# Altium footprint library Miscellaneous Devices.PcbLib: 178 footprints (part 4 of 12)
Each footprint in its own frame and in the unit in brackets; x right, y up, seen from the top. Pads: shape width x height; smd on the part's side, far side on the other; paste and mask are expansions set on the pad; w line width, h text height; cw(c..) or ccw(c..) is an arc to the next point about the centre after c.
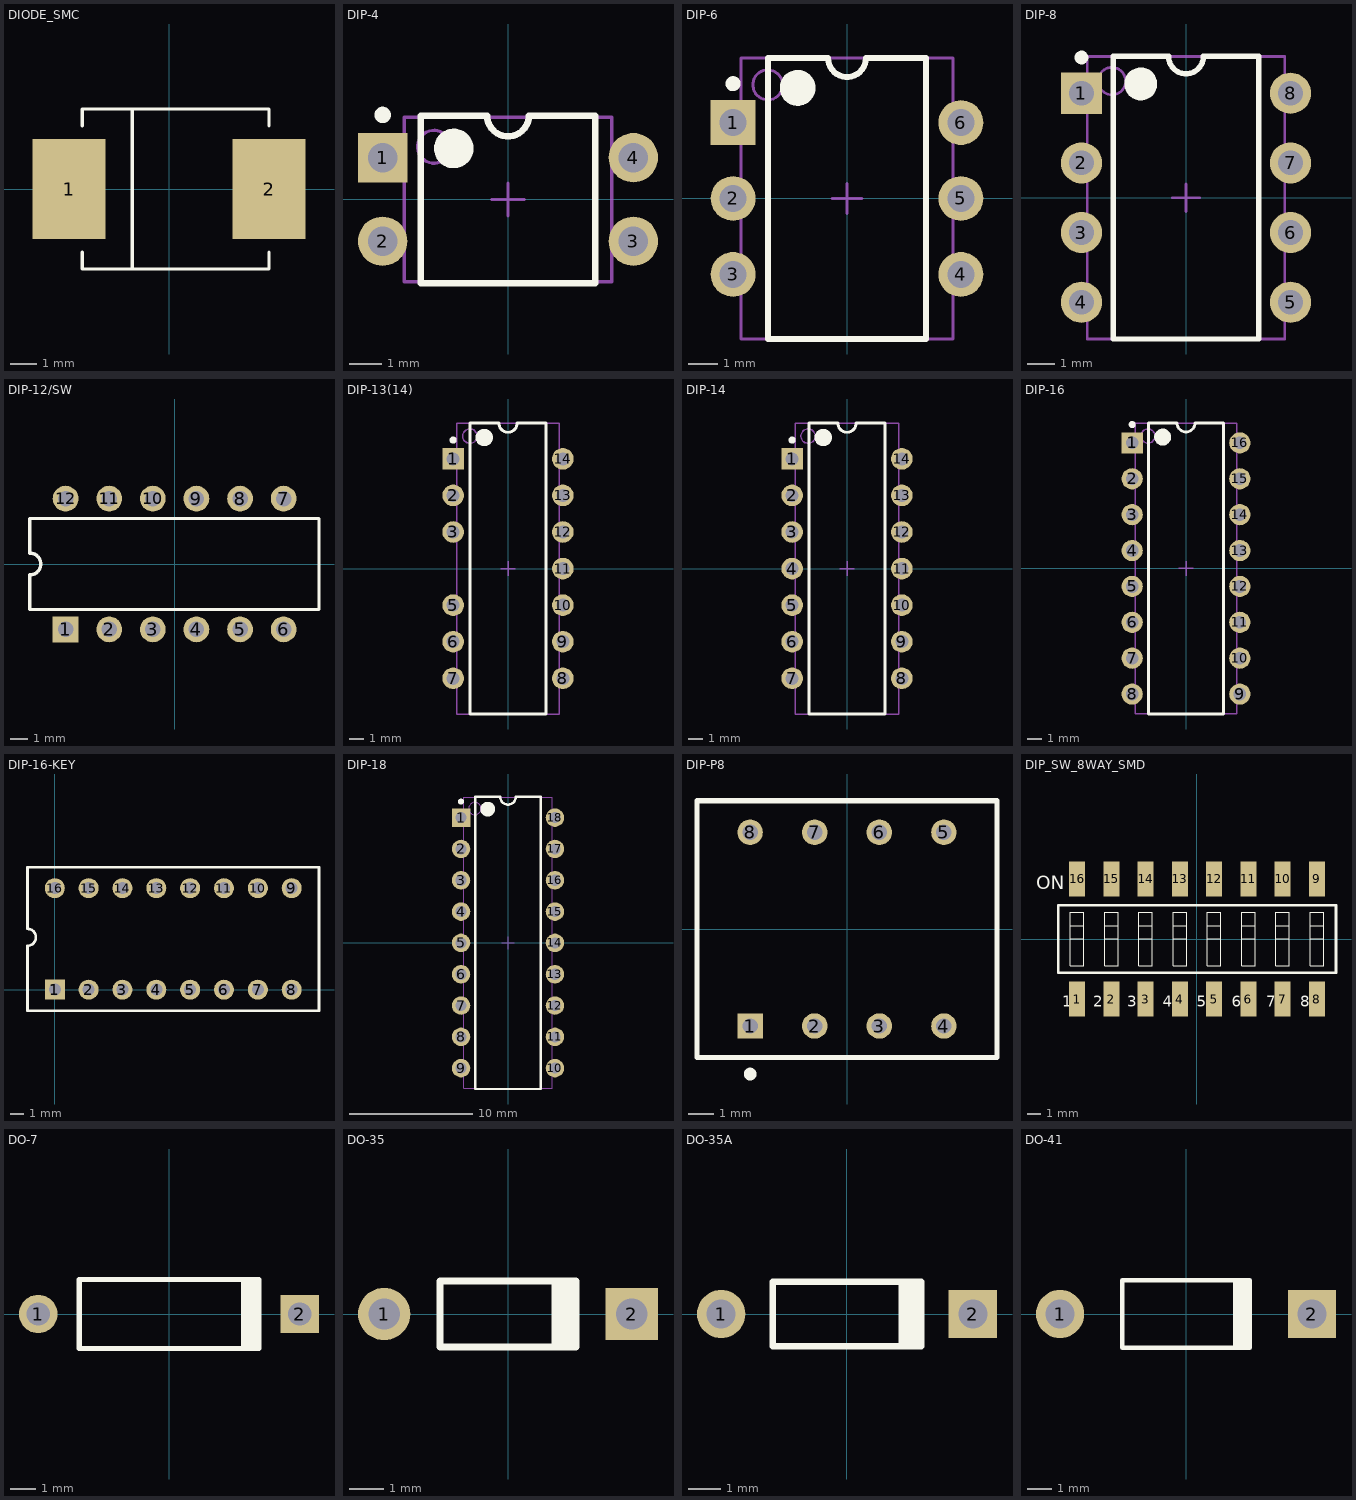
[diagram p3: the footprints below, top view; thin cyan lines are the x and y axes]

## DIODE_SMC [mil] "Diode; 2 Leads"
pads (2):
  rect 110x150 smd: 1(-150,0) 2(150,0)
Top Overlay:
  lines w5: -130,-95 -130,-120 150,-120 150,-95 ; -130,95 -130,120 150,120 150,95 ; -55,-120 -55,120
Mechanical 1:
  lines w1: -130,-120 150,-120 ; -130,120 150,120

## DIP-4 [mm] "DIP; 4 Leads; Row Spacing 7.62 mm; Pitch 2.54 mm"
height 5.6
pads (4):
  rect 1.5x1.5 hole 0.9: 1(-3.81,1.27)
  round 1.5 hole 0.9: 2(-3.81,-1.27) 3(3.81,-1.27) 4(3.81,1.27)
Top Overlay:
  circle w0.6: c-1.65,1.55 r0.3
  circle w0.25: c-3.81,2.57 r0.125
  lines w0.2: -2.65,-2.55 2.65,-2.55 2.65,2.55 0.635,2.55 cw(c0,2.55) -0.635,2.55 -2.65,2.55 -2.65,-2.55
Mechanical 13:
  circle w0.1: c-2.25,1.6 r0.5
  lines w0.1: -3.15,-2.5 3.15,-2.5 3.15,2.5 -3.15,2.5 -3.15,-2.5
Mechanical 15:
  lines w0.1: -0.5,0 0.5,0 ; 0,-0.5 0,0.5
3D body: height 5.6, standoff 0, extent -3.15,-2.5 3.15,2.5

## DIP-6 [mm] "DIP; 6 Leads; Row Spacing 7.62 mm; Pitch 2.54 mm"
height 5.46
pads (6):
  rect 1.5x1.5 hole 0.9: 1(-3.81,2.54)
  round 1.5 hole 0.9: 2(-3.81,0) 3(-3.81,-2.54) 4(3.81,-2.54) 5(3.81,0) 6(3.81,2.54)
Top Overlay:
  circle w0.25: c-3.81,3.84 r0.125
  circle w0.6: c-1.65,3.7 r0.3
  lines w0.2: -2.65,-4.7 -2.65,4.7 -0.635,4.7 ccw(c0,4.7) 0.635,4.7 2.65,4.7 2.65,-4.7 -2.65,-4.7
Mechanical 13:
  circle w0.1: c-2.65,3.8 r0.5
  lines w0.1: -3.55,-4.7 -3.55,4.7 3.55,4.7 3.55,-4.7 -3.55,-4.7
Mechanical 15:
  lines w0.1: -0.5,0 0.5,0 ; 0,-0.5 0,0.5
3D body: height 5.46, standoff 0, extent -3.55,-4.7 3.55,4.7

## DIP-8 [mm] "DIP; 8 Leads; Row Spacing 7.62 mm; Pitch 2.54 mm"
height 5.08
pads (8):
  rect 1.5x1.5 hole 0.9: 1(-3.81,3.81)
  round 1.5 hole 0.9: 2(-3.81,1.27) 3(-3.81,-1.27) 4(-3.81,-3.81) 5(3.81,-3.81) 6(3.81,-1.27) 7(3.81,1.27) 8(3.81,3.81)
Top Overlay:
  circle w0.6: c-1.65,4.15 r0.3
  circle w0.25: c-3.81,5.11 r0.125
  lines w0.2: -2.65,-5.15 2.65,-5.15 2.65,5.15 0.635,5.15 cw(c0,5.15) -0.635,5.15 -2.65,5.15 -2.65,-5.15
Mechanical 13:
  circle w0.1: c-2.7,4.25 r0.5
  lines w0.1: -3.6,-5.15 3.6,-5.15 3.6,5.15 -3.6,5.15 -3.6,-5.15
Mechanical 15:
  lines w0.1: -0.5,0 0.5,0 ; 0,-0.5 0,0.5
3D body: height 5.08, standoff 0, extent -3.6,-5.15 3.6,5.15

## DIP-12/SW [mm] "DIP Switch; 12 Leads"
height 5.8
pads (12):
  rect 1.5x1.5 hole 0.9: 1(-6.35,-3.81)
  round 1.5 hole 0.9: 2(-3.81,-3.81) 3(-1.27,-3.81) 4(1.27,-3.81) 5(3.81,-3.81) 6(6.35,-3.81) 7(6.35,3.81) 8(3.81,3.81) 9(1.27,3.81) 10(-1.27,3.81) 11(-3.81,3.81) 12(-6.35,3.81)
Top Overlay:
  lines w0.2: -8.43,-2.65 8.41,-2.65 8.41,2.65 -8.43,2.65 -8.43,0.635 cw(c-8.43,0) -8.43,-0.635 -8.43,-2.65

## DIP-13(14) [mm] "DIP; 14 Leads (1 Absent); Row Spacing 7.62 mm; Pitch 2.54 mm"
height 5.33
pads (13):
  rect 1.5x1.5 hole 0.9: 1(-3.81,7.62)
  round 1.5 hole 0.9: 2(-3.81,5.08) 3(-3.81,2.54) 5(-3.81,-2.54) 6(-3.81,-5.08) 7(-3.81,-7.62) 8(3.81,-7.62) 9(3.81,-5.08) 10(3.81,-2.54) 11(3.81,0) 12(3.81,2.54) 13(3.81,5.08) 14(3.81,7.62)
Top Overlay:
  circle w0.25: c-3.81,8.92 r0.125
  circle w0.6: c-1.65,9.1 r0.3
  lines w0.2: -2.65,-10.1 -2.65,10.1 -0.635,10.1 ccw(c0,10.1) 0.635,10.1 2.65,10.1 2.65,-10.1 -2.65,-10.1
Mechanical 13:
  circle w0.1: c-2.65,9.2 r0.5
  lines w0.1: -3.55,-10.1 -3.55,10.1 3.55,10.1 3.55,-10.1 -3.55,-10.1
Mechanical 15:
  lines w0.1: -0.5,0 0.5,0 ; 0,-0.5 0,0.5
3D body: height 5.33, standoff 0, extent -3.55,-10.1 3.55,10.1

## DIP-14 [mm] "DIP; 14 Leads; Row Spacing 7.62 mm; Pitch 2.54 mm"
height 5.08
pads (14):
  rect 1.5x1.5 hole 0.9: 1(-3.81,7.62)
  round 1.5 hole 0.9: 2(-3.81,5.08) 3(-3.81,2.54) 4(-3.81,0) 5(-3.81,-2.54) 6(-3.81,-5.08) 7(-3.81,-7.62) 8(3.81,-7.62) 9(3.81,-5.08) 10(3.81,-2.54) 11(3.81,0) 12(3.81,2.54) 13(3.81,5.08) 14(3.81,7.62)
Top Overlay:
  circle w0.6: c-1.65,9.1 r0.3
  circle w0.25: c-3.81,8.92 r0.125
  lines w0.2: -2.65,-10.1 2.65,-10.1 2.65,10.1 0.635,10.1 cw(c0,10.1) -0.635,10.1 -2.65,10.1 -2.65,-10.1
Mechanical 13:
  circle w0.1: c-2.7,9.2 r0.5
  lines w0.1: -3.6,-10.1 3.6,-10.1 3.6,10.1 -3.6,10.1 -3.6,-10.1
Mechanical 15:
  lines w0.1: -0.5,0 0.5,0 ; 0,-0.5 0,0.5
3D body: height 5.08, standoff 0, extent -3.6,-10.1 3.6,10.1

## DIP-16 [mm] "DIP; 16 Leads; Row Spacing 7.62 mm; Pitch 2.54 mm"
height 5.08
pads (16):
  rect 1.5x1.5 hole 0.9: 1(-3.81,8.89)
  round 1.5 hole 0.9: 2(-3.81,6.35) 3(-3.81,3.81) 4(-3.81,1.27) 5(-3.81,-1.27) 6(-3.81,-3.81) 7(-3.81,-6.35) 8(-3.81,-8.89) 9(3.81,-8.89) 10(3.81,-6.35) 11(3.81,-3.81) 12(3.81,-1.27) 13(3.81,1.27) 14(3.81,3.81) 15(3.81,6.35) 16(3.81,8.89)
Top Overlay:
  circle w0.25: c-3.81,10.19 r0.125
  circle w0.6: c-1.65,9.3 r0.3
  lines w0.2: -2.65,-10.3 -2.65,10.3 -0.635,10.3 ccw(c0,10.3) 0.635,10.3 2.65,10.3 2.65,-10.3 -2.65,-10.3
Mechanical 13:
  circle w0.1: c-2.7,9.375 r0.5
  lines w0.1: -3.6,-10.275 -3.6,10.275 3.6,10.275 3.6,-10.275 -3.6,-10.275
Mechanical 15:
  lines w0.1: -0.5,0 0.5,0 ; 0,-0.5 0,0.5
3D body: height 5.08, standoff 0, extent -3.6,-10.275 3.6,10.275

## DIP-16-KEY [mm] "DIP; 16 Leads; Row Spacing 7.62 mm; Pitch 2.54 mm"
pads (16):
  rect 1.5x1.5 hole 0.9: 1(0,0)
  round 1.5 hole 0.9: 2(2.54,0) 3(5.08,0) 4(7.62,0) 5(10.16,0) 6(12.7,0) 7(15.24,0) 8(17.78,0) 9(17.78,7.62) 10(15.24,7.62) 11(12.7,7.62) 12(10.16,7.62) 13(7.62,7.62) 14(5.08,7.62) 15(2.54,7.62) 16(0,7.62)
Top Overlay:
  lines w0.2: -2.05,4.57 cw(c-2.05,3.935) -2.05,3.3 -2.05,-1.59 19.83,-1.59 19.83,9.2 -2.05,9.2 -2.05,4.6

## DIP-18 [mm] "DIP; 18 Leads; Row Spacing 7.62 mm; Pitch 2.54 mm"
height 5.08
pads (18):
  rect 1.5x1.5 hole 0.9: 1(-3.81,10.16)
  round 1.5 hole 0.9: 2(-3.81,7.62) 3(-3.81,5.08) 4(-3.81,2.54) 5(-3.81,0) 6(-3.81,-2.54) 7(-3.81,-5.08) 8(-3.81,-7.62) 9(-3.81,-10.16) 10(3.81,-10.16) 11(3.81,-7.62) 12(3.81,-5.08) 13(3.81,-2.54) 14(3.81,0) 15(3.81,2.54) 16(3.81,5.08) 17(3.81,7.62) 18(3.81,10.16)
Top Overlay:
  circle w0.25: c-3.81,11.46 r0.125
  circle w0.6: c-1.65,10.85 r0.3
  lines w0.2: -2.65,-11.85 -2.65,11.85 -0.635,11.85 ccw(c0,11.85) 0.635,11.85 2.65,11.85 2.65,-11.85 -2.65,-11.85
Mechanical 13:
  circle w0.1: c-2.7,10.9 r0.5
  lines w0.1: -3.6,-11.8 -3.6,11.8 3.6,11.8 3.6,-11.8 -3.6,-11.8
Mechanical 15:
  lines w0.1: -0.5,0 0.5,0 ; 0,-0.5 0,0.5
3D body: height 5.08, standoff 0, extent -3.6,-11.8 3.6,11.8

## DIP-P8 [mm] "Dual-Pole Dual-Throw Relay; 8 Leads"
pads (8):
  rect 1x1 hole 0.6: 1(-3.81,-3.81)
  round 1 hole 0.6: 2(-1.27,-3.81) 3(1.27,-3.81) 4(3.81,-3.81) 5(3.81,3.81) 6(1.27,3.81) 7(-1.27,3.81) 8(-3.81,3.81)
Top Overlay:
  circle w0.25: c-3.81,-5.7 r0.125
  lines w0.2: -5.9,-5.05 5.9,-5.05 5.9,5.05 -5.9,5.05 -5.9,-0.635 -5.9,-5.05

## DIP_SW_8WAY_SMD [mm] "DIP Switch; 16 Leads"
height 5.06
pads (16):
  rect 1.2x2.6 smd: 1(-8.89,-4.45) 2(-6.35,-4.45) 3(-3.81,-4.45) 4(-1.27,-4.45) 5(1.27,-4.45) 6(3.81,-4.45) 7(6.35,-4.45) 8(8.89,-4.45) 9(8.89,4.45) 10(6.35,4.45) 11(3.81,4.45) 12(1.27,4.45) 13(-1.27,4.45) 14(-3.81,4.45) 15(-6.35,4.45) 16(-8.89,4.45)
Top Overlay:
  lines w0.025: -9.39,0 -8.39,0 ; -9.39,1 -8.39,1 ; -6.85,0 -5.85,0 ; -6.85,1 -5.85,1 ; -4.31,0 -3.31,0 ; -4.31,1 -3.31,1 ; -1.77,0 -0.77,0 ; -1.77,1 -0.77,1 ; 0.77,0 1.77,0 ; 0.77,1 1.77,1 ; 3.31,0 4.31,0 ; 3.31,1 4.31,1 ; 5.85,0 6.85,0 ; 5.85,1 6.85,1 ; 8.39,0 9.39,0 ; 8.39,1 9.39,1 ; -9.39,-2 -8.39,-2 -8.39,2 -9.39,2 -9.39,-2 ; -6.85,-2 -5.85,-2 -5.85,2 -6.85,2 -6.85,-2 ; -4.31,-2 -3.31,-2 -3.31,2 -4.31,2 -4.31,-2 ; -1.77,-2 -0.77,-2 -0.77,2 -1.77,2 -1.77,-2 ; 0.77,-2 1.77,-2 1.77,2 0.77,2 0.77,-2 ; 3.31,-2 4.31,-2 4.31,2 3.31,2 3.31,-2 ; 5.85,-2 6.85,-2 6.85,2 5.85,2 5.85,-2 ; 8.39,-2 9.39,-2 9.39,2 8.39,2 8.39,-2
  lines w0.2: -10.29,-2.5 10.31,-2.5 10.31,2.5 -10.29,2.5 -10.29,-2.5
  text "8" at 7.659,-5.032 h0.8
  text "7" at 5.119,-5.032 h0.8
  text "ON" at -11.938,3.678 h1
  text "1" at -10.006,-5.032 h0.8
  text "2" at -7.681,-5.032 h0.8
  text "3" at -5.181,-5.032 h0.8
  text "4" at -2.556,-5.032 h0.8
  text "5" at -0.031,-5.032 h0.8
  text "6" at 2.569,-5.032 h0.8

## DO-7 [mm] "Diode, Axial; Body 7 x 2.7 mm (LxDia. max), Lead Dia. 0.53 mm (max)"
height 2.7
pads (2):
  round 1.5 hole 0.9: 1(-5.1,0)
  rect 1.5x1.5 hole 0.9: 2(5.1,0)
Top Overlay:
  rectangle: 2.8,-1.35 3.6,1.35
  lines w0.2: 3.5,-1.35 -3.5,-1.35 -3.5,1.35 3.5,1.35

## DO-35 [mm] "Diode, Axial; Body 3.8 x 1.9 mm (LxDia. max), Lead Dia. 0.53 mm (max)"
height 1.9
pads (2):
  round 1.5 hole 0.9: 1(-3.55,0)
  rect 1.5x1.5 hole 0.9: 2(3.55,0)
Top Overlay:
  rectangle: 1.25,-0.95 2.05,0.95
  lines w0.2: 1.95,-0.95 -1.95,-0.95 -1.95,0.95 1.95,0.95

## DO-35A [mm] "Diode, Axial; Body 4.6 x 1.9 mm (LxDia. max), Lead Dia. 0.53 mm (max)"
height 2
pads (2):
  round 1.5 hole 0.9: 1(-3.9,0)
  rect 1.5x1.5 hole 0.9: 2(3.9,0)
Top Overlay:
  rectangle: 1.6,-1 2.4,1
  lines w0.2: 2.3,-1 -2.3,-1 -2.3,1 2.3,1

## DO-41 [mm] "Diode, Axial; Body 5.2 x 2.7 mm (LxDia. max), Lead Dia. 0.86 mm (max)"
height 2.8
pads (2):
  round 2 hole 1.2: 1(-5.23,0)
  rect 2x2 hole 1.2: 2(5.23,0)
Top Overlay:
  rectangle: 1.95,-1.4 2.75,1.4
  lines w0.2: 2.65,-1.4 -2.65,-1.4 -2.65,1.4 2.65,1.4